# Altium footprint library Sullins.PcbLib: 28 footprints (part 1 of 2)
Each footprint in its own frame and in the unit in brackets; x right, y up, seen from the top. Pads: shape width x height; smd on the part's side, far side on the other; paste and mask are expansions set on the pad; w line width, h text height; cw(c..) or ccw(c..) is an arc to the next point about the centre after c.
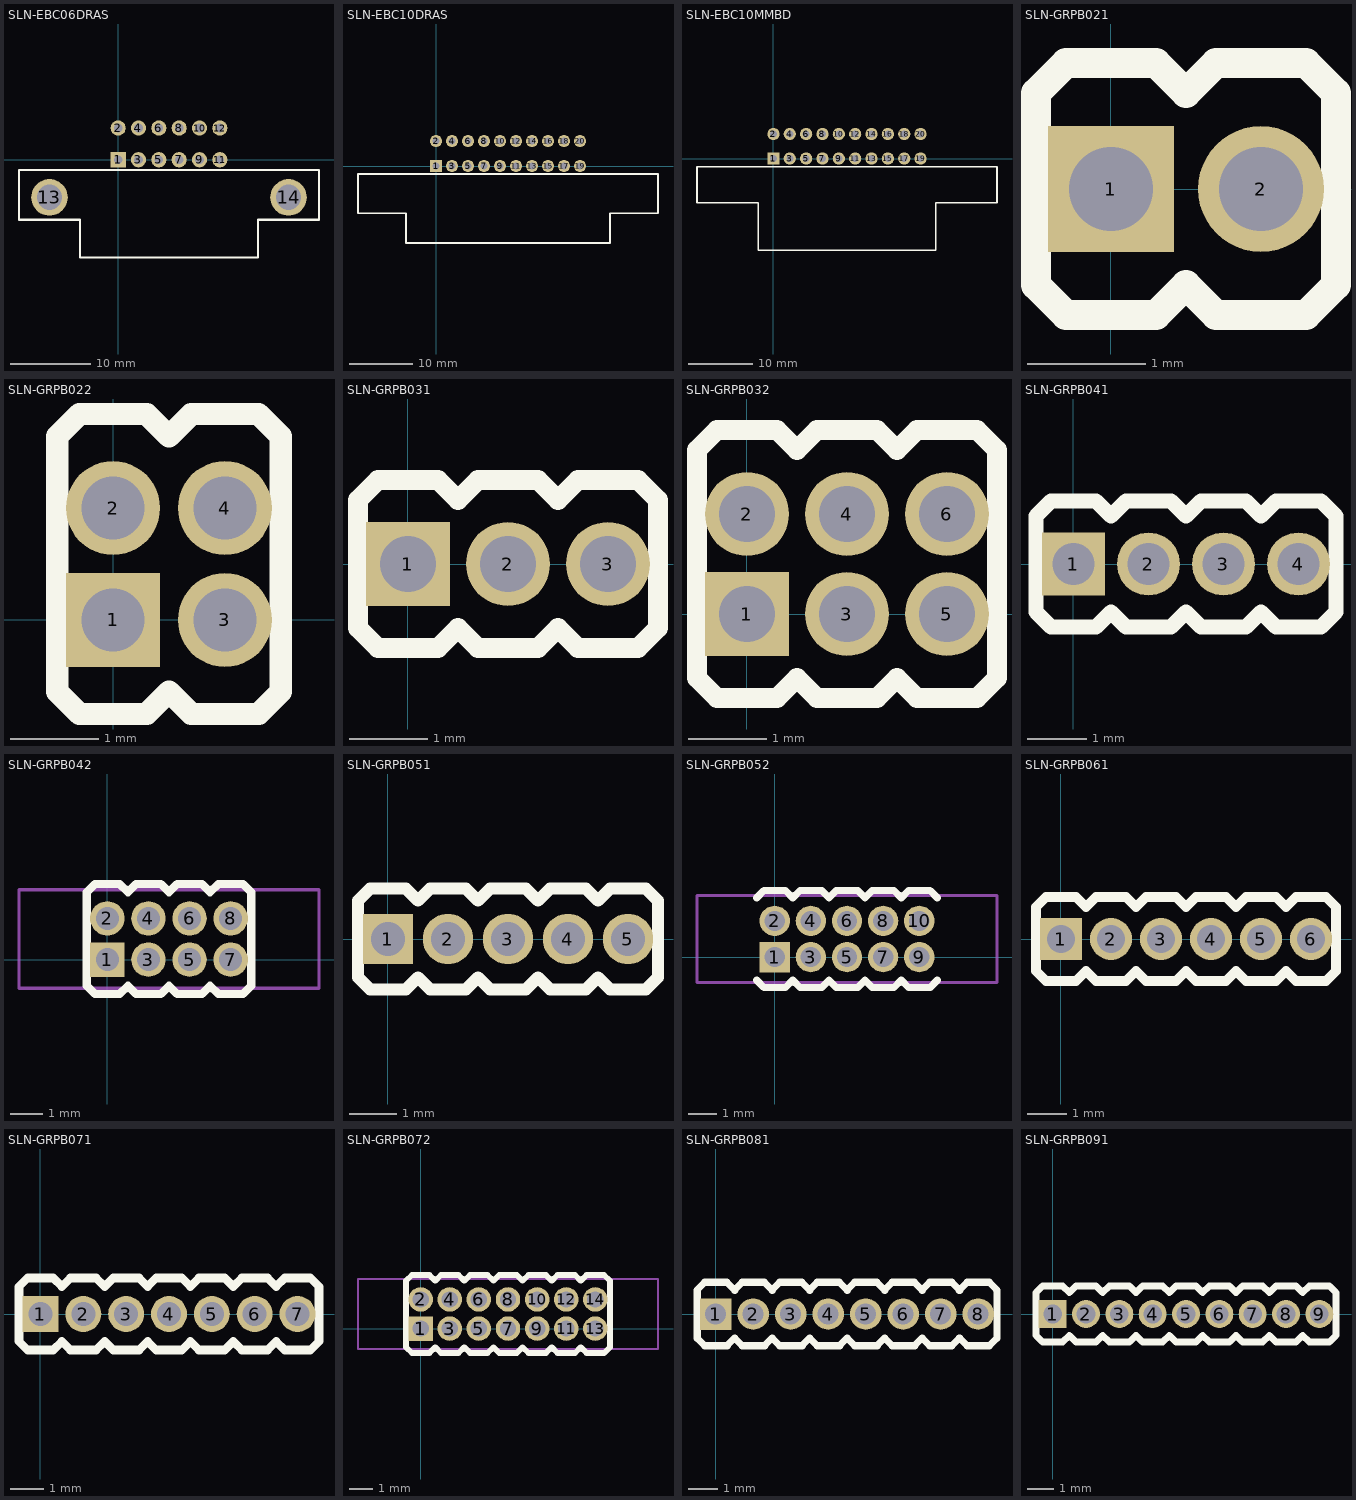
[diagram p0: the footprints below, top view; thin cyan lines are the x and y axes]

## SLN-EBC06DRAS [mil] "CONN EDGE DUAL FMALE 6POS 0.100"
height 330
pads (14):
  rect 75x75 hole 43: 1(0,0)
  round 75 hole 43: 2(0,156) 3(100,0) 4(100,156) 5(200,0) 6(200,156) 7(300,0) 8(300,156) 9(400,0) 10(400,156) 11(500,0) 12(500,156)
  round 180 hole 125: 13(-337.6,-185) 14(837.6,-185)
Top Overlay:
  lines w10: -487.5,-295 -187.5,-295 -187.5,-481 687.5,-481 687.5,-295 987.5,-295 987.5,-50 -487.5,-50 -487.5,-295
3D body "_ _C06DRAS.STEP": height 330, standoff -125, extent -487.5,-481 987.5,166

## SLN-EBC10DRAS [mil] "CONN EDGE DUAL FMALE 20POS 0.100"
height 330
pads (20):
  rect 75x75 hole 43: 1(0,0)
  round 75 hole 43: 2(0,156) 3(100,0) 4(100,156) 5(200,0) 6(200,156) 7(300,0) 8(300,156) 9(400,0) 10(400,156) 11(500,0) 12(500,156) 13(600,0) 14(600,156) 15(700,0) 16(700,156) 17(800,0) 18(800,156) 19(900,0) 20(900,156)
Top Overlay:
  lines w10: -487.5,-295 -487.5,-50 1387.5,-50 1387.5,-295 1087.5,-295 1087.5,-481 -187.5,-481 -187.5,-295 -487.5,-295
3D body "_ _C10DRAS.STEP": height 330, standoff -125, extent -492.61,-481.06 1382.39,165.94

## SLN-EBC10MMBD [mil] "CONN EDGE DUAL FMALE 20POS 0.100"
height 330
pads (20):
  rect 75x75 hole 43: 1(0,0)
  round 75 hole 43: 2(0,150) 3(100,0) 4(100,150) 5(200,0) 6(200,150) 7(300,0) 8(300,150) 9(400,0) 10(400,150) 11(500,0) 12(500,150) 13(600,0) 14(600,150) 15(700,0) 16(700,150) 17(800,0) 18(800,150) 19(900,0) 20(900,150)
Top Overlay:
  lines w10: -468,-270.02 -468,-49.94 1368,-49.94 1368,-270.02 993,-270.02 993,-560.02 -93,-560.02 -93,-270.02 -468,-270.02
3D body "_ _C10MMBD.STEP": height 370.04, standoff -179.96, extent -468,-560.02 1368,162.5

## SLN-GRPB021 [mil]
pads (2):
  rect 42x42 hole 28: 1(0,0)
  round 42 hole 28: 2(50,0)
Top Overlay:
  lines w10: -25,-32 -15,-42 15,-42 25,-32 35.01,-42 65,-42 75,-32 75,32 65,42 35.01,42 25.01,32 15,42 -15,42 -25,32 -25,-32
Mechanical 13:
  rectangle: 42,-8 58,8
  rectangle: -8,-8 8,8
3D body: height 129.92, standoff -118.11, extent 42,-8 58,8
3D body: height 39.37, standoff 0, extent 25.01,-42 75,42
3D body: height 39.37, standoff 0, extent -25,-42 25,42
3D body: height 129.92, standoff -118.11, extent -8,-8 8,8

## SLN-GRPB022 [mil]
pads (4):
  rect 42x42 hole 28: 1(0,0)
  round 42 hole 28: 2(0,50) 3(50,0) 4(50,50)
Top Overlay:
  lines w10: 75,18 75,82 65,92 35.01,92 25.01,82 15,92 -14.99,92 -24.99,82 ; 75,32 75,-32 65,-42 35.01,-42 25.01,-32 15,-42 -14.99,-42 -24.99,-32 ; -24.99,-32 -24.99,32 -25,-32 ; -24.99,82 -24.99,18 -25,82
Mechanical 13:
  rectangle: -8,42 8,58
  rectangle: 42,42 58,58
  rectangle: -8,-8 8,8
  rectangle: 42,-8 58,8
3D body: height 129.92, standoff -118.11, extent -8,42 8,58
3D body: height 39.37, standoff 0, extent -24.99,8 25,92
3D body: height 129.92, standoff -118.11, extent 42,42 58,58
3D body: height 39.37, standoff 0, extent 25.01,8 75,92
3D body: height 129.92, standoff -118.11, extent -8,-8 8,8
3D body: height 39.37, standoff 0, extent -24.99,-42 25,42
3D body: height 129.92, standoff -118.11, extent 42,-8 58,8
3D body: height 39.37, standoff 0, extent 25.01,-42 75,42

## SLN-GRPB031 [mil]
pads (3):
  rect 42x42 hole 28: 1(0,0)
  round 42 hole 28: 2(50,0) 3(100,0)
Top Overlay:
  lines w10: -25,-32 -15,-42 15,-42 25,-32 35.01,-42 65,-42 75,-32 85.01,-42 115,-42 125,-32 125,32 115,42 85.01,42 75.01,32 65,42 35.01,42 25.01,32 15,42 -15,42 -25,32 -25,-32
Mechanical 13:
  rectangle: 92,-8 108,8
  rectangle: 42,-8 58,8
  rectangle: -8,-8 8,8
3D body: height 39.37, standoff 0, extent 75.01,-42 125,42
3D body: height 129.92, standoff -118.11, extent 92,-8 108,8
3D body: height 129.92, standoff -118.11, extent 42,-8 58,8
3D body: height 39.37, standoff 0, extent 25.01,-42 75,42
3D body: height 39.37, standoff 0, extent -25,-42 25,42
3D body: height 129.92, standoff -118.11, extent -8,-8 8,8

## SLN-GRPB032 [mil]
pads (6):
  rect 42x42 hole 28: 1(0,0)
  round 42 hole 28: 2(0,50) 3(50,0) 4(50,50) 5(100,0) 6(100,50)
Top Overlay:
  lines w10: 125,18 125,82 115,92 85.01,92 75.01,82 65,92 35.01,92 25.01,82 15,92 -14.99,92 -24.99,82 ; 125,32 125,-32 115,-42 85.01,-42 75.01,-32 65,-42 35.01,-42 25.01,-32 15,-42 -14.99,-42 -24.99,-32 ; -25,-32 -25,32 -24.99,-32 ; -25,82 -25,18 -24.99,82
Mechanical 13:
  rectangle: 92,-8 108,8
  rectangle: 42,-8 58,8
  rectangle: -8,-8 8,8
  rectangle: 92,42 108,58
  rectangle: 42,42 58,58
  rectangle: -8,42 8,58
3D body: height 39.37, standoff 0, extent 75.01,-42 125,42
3D body: height 129.92, standoff -118.11, extent 92,-8 108,8
3D body: height 39.37, standoff 0, extent 25.01,-42 75,42
3D body: height 129.92, standoff -118.11, extent 42,-8 58,8
3D body: height 39.37, standoff 0, extent -24.99,-42 25,42
3D body: height 129.92, standoff -118.11, extent -8,-8 8,8
3D body: height 39.37, standoff 0, extent 75.01,8 125,92
3D body: height 129.92, standoff -118.11, extent 92,42 108,58
3D body: height 39.37, standoff 0, extent 25.01,8 75,92
3D body: height 129.92, standoff -118.11, extent 42,42 58,58
3D body: height 39.37, standoff 0, extent -24.99,8 25,92
3D body: height 129.92, standoff -118.11, extent -8,42 8,58

## SLN-GRPB041 [mil]
pads (4):
  rect 42x42 hole 28: 1(0,0)
  round 42 hole 28: 2(50,0) 3(100,0) 4(150,0)
Top Overlay:
  lines w10: -24.99,-32 -24.99,32 ; -24.99,-32 -14.99,-42 15,-42 25,-32 35.01,-42 65,-42 75,-32 85.01,-42 115,-42 125,-32 135.01,-42 165,-42 175,-32 175,32 165,42 135.01,42 125.01,32 115,42 85.01,42 75.01,32 65,42 35.01,42 25.01,32 15,42 -14.99,42 -24.99,32 ; -25,-32 -25,32
Mechanical 13:
  rectangle: -8,-8 8,8
  rectangle: 42,-8 58,8
  rectangle: 92,-8 108,8
  rectangle: 142,-8 158,8
3D body: height 129.92, standoff -118.11, extent -8,-8 8,8
3D body: height 39.37, standoff 0, extent -24.99,-42 25,42
3D body: height 129.92, standoff -118.11, extent 42,-8 58,8
3D body: height 39.37, standoff 0, extent 25.01,-42 75,42
3D body: height 129.92, standoff -118.11, extent 92,-8 108,8
3D body: height 39.37, standoff 0, extent 75.01,-42 125,42
3D body: height 129.92, standoff -118.11, extent 142,-8 158,8
3D body: height 39.37, standoff 0, extent 125.01,-42 175,42

## SLN-GRPB042 [mil]
pads (8):
  rect 42x42 hole 28: 1(0,0)
  round 42 hole 28: 2(0,50) 3(50,0) 4(50,50) 5(100,0) 6(100,50) 7(150,0) 8(150,50)
Top Overlay:
  lines w10: -25,-32 -25,32 -24.99,-32 ; -24.99,-32 -14.99,-42 15,-42 25,-32 35.01,-42 65,-42 75,-32 85.01,-42 115,-42 125,-32 135.01,-42 165,-42 175,-32 175,82 165,92 135.01,92 125.01,82 115,92 85.01,92 75.01,82 65,92 35.01,92 25.01,82 15,92 -14.99,92 -24.99,82 ; -25,82 -25,18 -24.99,82
Mechanical 13:
  rectangle: 92,-8 108,8
  rectangle: 42,-8 58,8
  rectangle: -8,-8 8,8
  rectangle: 92,42 108,58
  rectangle: 42,42 58,58
  rectangle: -8,42 8,58
  rectangle: 142,42 158,58
  rectangle: 142,-8 158,8
Mechanical 15:
  lines w3.94: -107.5,-35 257.5,-35 257.5,85 -107.5,85 -107.5,-35
3D body: height 39.37, standoff 0, extent 75.01,-42 125,42
3D body: height 129.92, standoff -118.11, extent 92,-8 108,8
3D body: height 39.37, standoff 0, extent 25.01,-42 75,42
3D body: height 129.92, standoff -118.11, extent 42,-8 58,8
3D body: height 39.37, standoff 0, extent -24.99,-42 25,42
3D body: height 129.92, standoff -118.11, extent -8,-8 8,8
3D body: height 39.37, standoff 0, extent 75.01,8 125,92
3D body: height 129.92, standoff -118.11, extent 92,42 108,58
3D body: height 39.37, standoff 0, extent 25.01,8 75,92
3D body: height 129.92, standoff -118.11, extent 42,42 58,58
3D body: height 39.37, standoff 0, extent -24.99,8 25,92
3D body: height 129.92, standoff -118.11, extent -8,42 8,58
3D body: height 129.92, standoff -118.11, extent 142,42 158,58
3D body: height 39.37, standoff 0, extent 125.01,8 175,92
3D body: height 129.92, standoff -118.11, extent 142,-8 158,8
3D body: height 39.37, standoff 0, extent 125.01,-42 175,42

## SLN-GRPB051 [mil]
pads (5):
  rect 42x42 hole 28: 1(0,0)
  round 42 hole 28: 2(50,0) 3(100,0) 4(150,0) 5(200,0)
Top Overlay:
  lines w10: -25,-32 -25,32 ; -24.99,-32 -14.99,-42 15,-42 25,-32 35.01,-42 65,-42 75,-32 85.01,-42 115,-42 125,-32 135.01,-42 165,-42 175,-32 185.01,-42 215,-42 225,-32 225,32 215,42 185.01,42 175.01,32 165,42 135.01,42 125.01,32 115,42 85.01,42 75.01,32 65,42 35.01,42 25.01,32 15,42 -14.99,42 -24.99,32 ; -24.99,-32 -24.99,32
Mechanical 13:
  rectangle: 142,-8 158,8
  rectangle: 92,-8 108,8
  rectangle: 42,-8 58,8
  rectangle: -8,-8 8,8
  rectangle: 192,-8 208,8
3D body: height 39.37, standoff 0, extent 125.01,-42 175,42
3D body: height 129.92, standoff -118.11, extent 142,-8 158,8
3D body: height 39.37, standoff 0, extent 75.01,-42 125,42
3D body: height 129.92, standoff -118.11, extent 92,-8 108,8
3D body: height 39.37, standoff 0, extent 25.01,-42 75,42
3D body: height 129.92, standoff -118.11, extent 42,-8 58,8
3D body: height 39.37, standoff 0, extent -24.99,-42 25,42
3D body: height 129.92, standoff -118.11, extent -8,-8 8,8
3D body: height 129.92, standoff -118.11, extent 192,-8 208,8
3D body: height 39.37, standoff 0, extent 175.01,-42 225,42

## SLN-GRPB052 [mil]
pads (10):
  rect 42x42 hole 28: 1(0,0)
  round 42 hole 28: 2(0,50) 3(50,0) 4(50,50) 5(100,0) 6(100,50) 7(150,0) 8(150,50) 9(200,0) 10(200,50)
Top Overlay:
  lines w10: -24.99,-32 -14.99,-42 15,-42 25,-32 35.01,-42 65,-42 75,-32 85.01,-42 115,-42 125,-32 135.01,-42 165,-42 175,-32 185.01,-42 215,-42 225,-32 ; -24.99,82 -14.99,92 15,92 25,82 35.01,92 65,92 75,82 85.01,92 115,92 125,82 135.01,92 165,92 175,82 185.01,92 215,92 225,82
Mechanical 13:
  rectangle: 142,-8 158,8
  rectangle: 92,-8 108,8
  rectangle: 42,-8 58,8
  rectangle: -8,-8 8,8
  rectangle: 192,-8 208,8
  rectangle: 142,42 158,58
  rectangle: 92,42 108,58
  rectangle: 42,42 58,58
  rectangle: -8,42 8,58
  rectangle: 192,42 208,58
Mechanical 15:
  lines w3.94: -107.5,-35 -107.5,85 307.5,85 307.5,-35 -107.5,-35
3D body: height 39.37, standoff 0, extent 125.01,-42 175,42
3D body: height 129.92, standoff -118.11, extent 142,-8 158,8
3D body: height 39.37, standoff 0, extent 75.01,-42 125,42
3D body: height 129.92, standoff -118.11, extent 92,-8 108,8
3D body: height 39.37, standoff 0, extent 25.01,-42 75,42
3D body: height 129.92, standoff -118.11, extent 42,-8 58,8
3D body: height 39.37, standoff 0, extent -24.99,-42 25,42
3D body: height 129.92, standoff -118.11, extent -8,-8 8,8
3D body: height 129.92, standoff -118.11, extent 192,-8 208,8
3D body: height 39.37, standoff 0, extent 175.01,-42 225,42
3D body: height 39.37, standoff 0, extent 125.01,8 175,92
3D body: height 129.92, standoff -118.11, extent 142,42 158,58
3D body: height 39.37, standoff 0, extent 75.01,8 125,92
3D body: height 129.92, standoff -118.11, extent 92,42 108,58
3D body: height 39.37, standoff 0, extent 25.01,8 75,92
3D body: height 129.92, standoff -118.11, extent 42,42 58,58
3D body: height 39.37, standoff 0, extent -24.99,8 25,92
3D body: height 129.92, standoff -118.11, extent -8,42 8,58
3D body: height 129.92, standoff -118.11, extent 192,42 208,58
3D body: height 39.37, standoff 0, extent 175.01,8 225,92

## SLN-GRPB061 [mil]
pads (6):
  rect 42x42 hole 28: 1(0,0)
  round 42 hole 28: 2(50,0) 3(100,0) 4(150,0) 5(200,0) 6(250,0)
Top Overlay:
  lines w10: -24.99,-32 -24.99,32 ; -24.99,-32 -14.99,-42 15,-42 25,-32 35.01,-42 65,-42 75,-32 85.01,-42 115,-42 125,-32 135.01,-42 165,-42 175,-32 185.01,-42 215,-42 225,-32 235.01,-42 265,-42 275,-32 275.01,32 265,42 235.01,42 225.01,32 215,42 185.01,42 175.01,32 165,42 135.01,42 125.01,32 115,42 85.01,42 75.01,32 65,42 35.01,42 25.01,32 15,42 -14.99,42 -24.99,32 ; -25,-32 -25,32
Mechanical 13:
  rectangle: 242,-8 258,8
  rectangle: 192,-8 208,8
  rectangle: -8,-8 8,8
  rectangle: 42,-8 58,8
  rectangle: 92,-8 108,8
  rectangle: 142,-8 158,8
3D body: height 129.92, standoff -118.11, extent 242,-8 258,8
3D body: height 39.37, standoff 0, extent 225.01,-42 275,42
3D body: height 39.37, standoff 0, extent 175.01,-42 225,42
3D body: height 129.92, standoff -118.11, extent 192,-8 208,8
3D body: height 129.92, standoff -118.11, extent -8,-8 8,8
3D body: height 39.37, standoff 0, extent -24.99,-42 25,42
3D body: height 129.92, standoff -118.11, extent 42,-8 58,8
3D body: height 39.37, standoff 0, extent 25.01,-42 75,42
3D body: height 129.92, standoff -118.11, extent 92,-8 108,8
3D body: height 39.37, standoff 0, extent 75.01,-42 125,42
3D body: height 129.92, standoff -118.11, extent 142,-8 158,8
3D body: height 39.37, standoff 0, extent 125.01,-42 175,42

## SLN-GRPB071 [mil]
pads (7):
  rect 42x42 hole 28: 1(0,0)
  round 42 hole 28: 2(50,0) 3(100,0) 4(150,0) 5(200,0) 6(250,0) 7(300,0)
Top Overlay:
  lines w10: -24.99,-32 -24.99,32 ; -24.99,-32 -14.99,-42 15,-42 25,-32 35.01,-42 65,-42 75,-32 85.01,-42 115,-42 125,-32 135.01,-42 165,-42 175,-32 185.01,-42 215,-42 225,-32 235.01,-42 265,-42 275,-32 285.01,-42 315,-42 325,-32 325,32 315,42 285.01,42 275.01,32 265,42 235.01,42 225.01,32 215,42 185.01,42 175.01,32 165,42 135.01,42 125.01,32 115,42 85.01,42 75.01,32 65,42 35.01,42 25.01,32 15,42 -14.99,42 -24.99,32 ; -25,-32 -25,32
Mechanical 13:
  rectangle: 242,-8 258,8
  rectangle: 192,-8 208,8
  rectangle: -8,-8 8,8
  rectangle: 42,-8 58,8
  rectangle: 92,-8 108,8
  rectangle: 142,-8 158,8
  rectangle: 292,-8 308,8
3D body: height 129.92, standoff -118.11, extent 242,-8 258,8
3D body: height 39.37, standoff 0, extent 225.01,-42 275,42
3D body: height 39.37, standoff 0, extent 175.01,-42 225,42
3D body: height 129.92, standoff -118.11, extent 192,-8 208,8
3D body: height 129.92, standoff -118.11, extent -8,-8 8,8
3D body: height 39.37, standoff 0, extent -24.99,-42 25,42
3D body: height 129.92, standoff -118.11, extent 42,-8 58,8
3D body: height 39.37, standoff 0, extent 25.01,-42 75,42
3D body: height 129.92, standoff -118.11, extent 92,-8 108,8
3D body: height 39.37, standoff 0, extent 75.01,-42 125,42
3D body: height 129.92, standoff -118.11, extent 142,-8 158,8
3D body: height 39.37, standoff 0, extent 125.01,-42 175,42
3D body: height 39.37, standoff 0, extent 275.01,-42 325,42
3D body: height 129.92, standoff -118.11, extent 292,-8 308,8

## SLN-GRPB072 [mil]
pads (14):
  rect 42x42 hole 28: 1(0,0)
  round 42 hole 28: 2(0,50) 3(50,0) 4(50,50) 5(100,0) 6(100,50) 7(150,0) 8(150,50) 9(200,0) 10(200,50) 11(250,0) 12(250,50) 13(300,0) 14(300,50)
Top Overlay:
  lines w10: -24.99,-32 -24.99,32 -25,-32 ; -24.99,-32 -14.99,-42 15,-42 25,-32 35.01,-42 65,-42 75,-32 85.01,-42 115,-42 125,-32 135.01,-42 165,-42 175,-32 185.01,-42 215,-42 225,-32 235.01,-42 265,-42 275,-32 285.01,-42 315,-42 325,-32 325,82 315,92 285.01,92 275.01,82 265,92 235.01,92 225.01,82 215,92 185.01,92 175.01,82 165,92 135.01,92 125.01,82 115,92 85.01,92 75.01,82 65,92 35.01,92 25.01,82 15,92 -14.99,92 -24.99,82 ; -24.99,82 -24.99,18 -25,82
Mechanical 13:
  rectangle: 192,-8 208,8
  rectangle: 192,42 208,58
  rectangle: 142,-8 158,8
  rectangle: 142,42 158,58
  rectangle: 92,-8 108,8
  rectangle: 92,42 108,58
  rectangle: 292,-8 308,8
  rectangle: 292,42 308,58
  rectangle: -8,42 8,58
  rectangle: 42,42 58,58
  rectangle: 242,42 258,58
  rectangle: -8,-8 8,8
  rectangle: 42,-8 58,8
  rectangle: 242,-8 258,8
Mechanical 15:
  lines w3.94: -107.5,-35 -107.5,85 407.5,85 407.5,-35 -107.5,-35
3D body: height 39.37, standoff 0, extent 175.01,-42 225,42
3D body: height 129.92, standoff -118.11, extent 192,-8 208,8
3D body: height 39.37, standoff 0, extent 175.01,8 225,92
3D body: height 129.92, standoff -118.11, extent 192,42 208,58
3D body: height 39.37, standoff 0, extent 125.01,-42 175,42
3D body: height 129.92, standoff -118.11, extent 142,-8 158,8
3D body: height 39.37, standoff 0, extent 125.01,8 175,92
3D body: height 129.92, standoff -118.11, extent 142,42 158,58
3D body: height 39.37, standoff 0, extent 75.01,-42 125,42
3D body: height 129.92, standoff -118.11, extent 92,-8 108,8
3D body: height 39.37, standoff 0, extent 75.01,8 125,92
3D body: height 129.92, standoff -118.11, extent 92,42 108,58
3D body: height 39.37, standoff 0, extent 275.01,-42 325,42
3D body: height 129.92, standoff -118.11, extent 292,-8 308,8
3D body: height 39.37, standoff 0, extent 275.01,8 325,92
3D body: height 129.92, standoff -118.11, extent 292,42 308,58
3D body: height 129.92, standoff -118.11, extent -8,42 8,58
3D body: height 39.37, standoff 0, extent -24.99,8 25,92
3D body: height 129.92, standoff -118.11, extent 42,42 58,58
3D body: height 39.37, standoff 0, extent 25.01,8 75,92
3D body: height 129.92, standoff -118.11, extent 242,42 258,58
3D body: height 39.37, standoff 0, extent 225.01,8 275,92
3D body: height 129.92, standoff -118.11, extent -8,-8 8,8
3D body: height 39.37, standoff 0, extent -24.99,-42 25,42
3D body: height 129.92, standoff -118.11, extent 42,-8 58,8
3D body: height 39.37, standoff 0, extent 25.01,-42 75,42
3D body: height 129.92, standoff -118.11, extent 242,-8 258,8
3D body: height 39.37, standoff 0, extent 225.01,-42 275,42

## SLN-GRPB081 [mil]
pads (8):
  rect 42x42 hole 28: 1(0,0)
  round 42 hole 28: 2(50,0) 3(100,0) 4(150,0) 5(200,0) 6(250,0) 7(300,0) 8(350,0)
Top Overlay:
  lines w10: -24.99,-32 -24.99,32 ; -24.99,-32 -14.99,-42 15,-42 25,-32 35.01,-42 65,-42 75,-32 85.01,-42 115,-42 125,-32 135.01,-42 165,-42 175,-32 185.01,-42 215,-42 225,-32 235.01,-42 265,-42 275,-32 285.01,-42 315,-42 325,-32 335.01,-42 365,-42 375,-32 375.01,32 365,42 335.01,42 325.01,32 315,42 285.01,42 275.01,32 265,42 235.01,42 225.01,32 215,42 185.01,42 175.01,32 165,42 135.01,42 125.01,32 115,42 85.01,42 75.01,32 65,42 35.01,42 25.01,32 15,42 -14.99,42 -24.99,32 ; -25,-32 -25,32
Mechanical 13:
  rectangle: 342,-8 358,8
  rectangle: 242,-8 258,8
  rectangle: 192,-8 208,8
  rectangle: -8,-8 8,8
  rectangle: 42,-8 58,8
  rectangle: 92,-8 108,8
  rectangle: 142,-8 158,8
  rectangle: 292,-8 308,8
3D body: height 129.92, standoff -118.11, extent 342,-8 358,8
3D body: height 39.37, standoff 0, extent 325.01,-42 375,42
3D body: height 129.92, standoff -118.11, extent 242,-8 258,8
3D body: height 39.37, standoff 0, extent 225.01,-42 275,42
3D body: height 39.37, standoff 0, extent 175.01,-42 225,42
3D body: height 129.92, standoff -118.11, extent 192,-8 208,8
3D body: height 129.92, standoff -118.11, extent -8,-8 8,8
3D body: height 39.37, standoff 0, extent -24.99,-42 25,42
3D body: height 129.92, standoff -118.11, extent 42,-8 58,8
3D body: height 39.37, standoff 0, extent 25.01,-42 75,42
3D body: height 129.92, standoff -118.11, extent 92,-8 108,8
3D body: height 39.37, standoff 0, extent 75.01,-42 125,42
3D body: height 129.92, standoff -118.11, extent 142,-8 158,8
3D body: height 39.37, standoff 0, extent 125.01,-42 175,42
3D body: height 39.37, standoff 0, extent 275.01,-42 325,42
3D body: height 129.92, standoff -118.11, extent 292,-8 308,8

## SLN-GRPB091 [mil]
pads (9):
  rect 42x42 hole 28: 1(0,0)
  round 42 hole 28: 2(50,0) 3(100,0) 4(150,0) 5(200,0) 6(250,0) 7(300,0) 8(350,0) 9(400,0)
Top Overlay:
  lines w10: -25,-32 -25,32 ; -24.99,-32 -14.99,-42 15,-42 25,-32 35.01,-42 65,-42 75,-32 85.01,-42 115,-42 125,-32 135.01,-42 165,-42 175,-32 185.01,-42 215,-42 225,-32 235.01,-42 265,-42 275,-32 285.01,-42 315,-42 325,-32 335.01,-42 365,-42 375,-32 385,-42 414.99,-42 424.99,-32 ; -24.99,-32 -24.99,32 ; -24.99,32 -14.99,42 15,42 25,32 35.01,42 65,42 75,32 85.01,42 115,42 125,32 135.01,42 165,42 175,32 185.01,42 215,42 225,32 235.01,42 265,42 275,32 285.01,42 315,42 325,32 335.01,42 365,42 375,32 385,42 414.99,42 424.99,32 ; 424.99,-32 424.99,32 ; 425,-32 425,32
Mechanical 13:
  rectangle: 292,-8 308,8
  rectangle: 142,-8 158,8
  rectangle: 92,-8 108,8
  rectangle: 42,-8 58,8
  rectangle: -8,-8 8,8
  rectangle: 192,-8 208,8
  rectangle: 242,-8 258,8
  rectangle: 342,-8 358,8
  region: 408,8 392,8 392,-8 408,-8
3D body: height 129.92, standoff -118.11, extent 292,-8 308,8
3D body: height 39.37, standoff 0, extent 275.01,-42 325,42
3D body: height 39.37, standoff 0, extent 125.01,-42 175,42
3D body: height 129.92, standoff -118.11, extent 142,-8 158,8
3D body: height 39.37, standoff 0, extent 75.01,-42 125,42
3D body: height 129.92, standoff -118.11, extent 92,-8 108,8
3D body: height 39.37, standoff 0, extent 25.01,-42 75,42
3D body: height 129.92, standoff -118.11, extent 42,-8 58,8
3D body: height 39.37, standoff 0, extent -24.99,-42 25,42
3D body: height 129.92, standoff -118.11, extent -8,-8 8,8
3D body: height 129.92, standoff -118.11, extent 192,-8 208,8
3D body: height 39.37, standoff 0, extent 175.01,-42 225,42
3D body: height 39.37, standoff 0, extent 225.01,-42 275,42
3D body: height 129.92, standoff -118.11, extent 242,-8 258,8
3D body: height 39.37, standoff 0, extent 325.01,-42 375,42
3D body: height 129.92, standoff -118.11, extent 342,-8 358,8
3D body: height 129.92, standoff -118.11, extent 392,-8 408,8
3D body: height 39.37, standoff 0, extent 375,-42 424.99,42